# EAGLE library part LT3652 (library own)
LT3652 MPPT Solar Charge Controller 5V-32V smart charger for batteries up to 14.4V
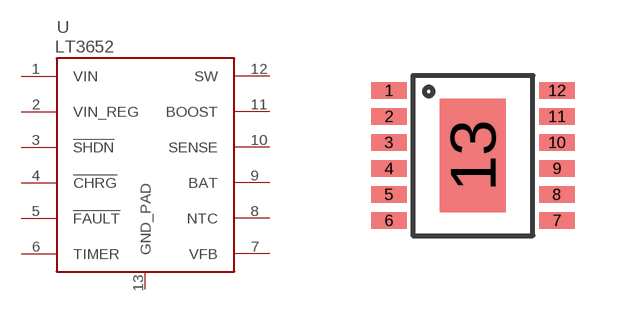
[diagram p36: symbol with the pads of MSOP-12_GND; footprint MSOP-12_GND]

Designator prefix U

## LT3652 (VALUE: LT3652)  [MSOP-12_GND]
1  VIN
2  VIN_REG
3  !SHDN
4  !CHRG
5  !FAULT
6  TIMER
7  VFB
8  NTC
9  BAT
10  SENSE
11  BOOST
12  SW
13  GND_PAD

## Footprint MSOP-12_GND (pad centres in mm)
smd 0.889 x 0.42: 1 -2.1,1.625; 2 -2.1,0.975; 3 -2.1,0.325; 4 -2.1,-0.325; 5 -2.1,-0.975; 6 -2.1,-1.625; 7 2.1,-1.625; 8 2.1,-0.975; 9 2.1,-0.325; 10 2.1,0.325; 11 2.1,0.975; 12 2.1,1.625
smd 1.651 x 2.845: 13 0,0